# EAGLE library part LED_RGB (library dp_devices)
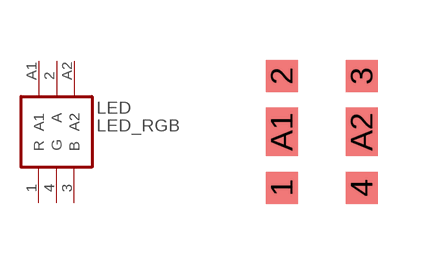
[diagram p87: symbol with the pads of PLCC4; footprint PLCC4]

Designator prefix LED

## LED_RGB  [PLCC4]
1  R
2  A
3  B
4  G
A1  A1
A2  A2

## Footprint PLCC4 (pad centres in mm)
smd 0.8 x 0.8: 1 -1,-1.4; 2 -1,1.4; 3 1,1.4; 4 1,-1.4
smd 0.8 x 1.2: A1 -1,0; A2 1,0